# EAGLE library part MPU-9250 (library invensense)
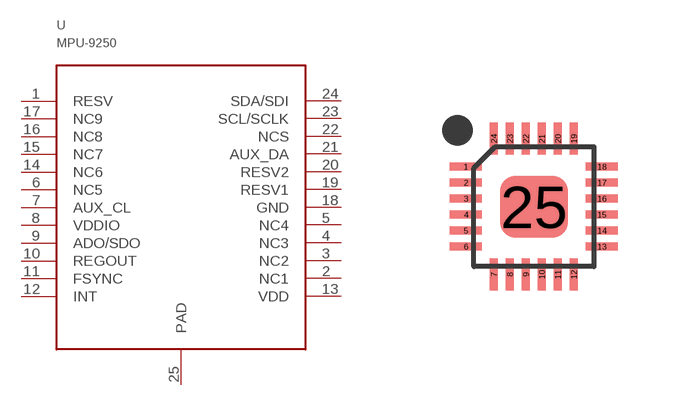
[diagram p0: symbol with the pads of LEAD-QFN24; footprint LEAD-QFN24]

Designator prefix -

## MPU-9250  [LEAD-QFN24]
1  RESV
2  NC1
3  NC2
4  NC3
5  NC4
6  NC5
7  AUX_CL
8  VDDIO
9  ADO/SDO
10  REGOUT
11  FSYNC
12  INT
13  VDD
14  NC6
15  NC7
16  NC8
17  NC9
18  GND
19  RESV1
20  RESV2
21  AUX_DA
22  NCS
23  SCL/SCLK
24  SDA/SDI
25  PAD

## Footprint LEAD-QFN24 (pad centres in mm)
smd 0.8 x 0.2: 1 -1.7,1; 2 -1.7,0.6; 3 -1.7,0.2; 4 -1.7,-0.2; 5 -1.7,-0.6; 6 -1.7,-1; 13 1.7,-1; 14 1.7,-0.6; 15 1.7,-0.2; 16 1.7,0.2; 17 1.7,0.6; 18 1.7,1
smd 0.2 x 0.8: 7 -1,-1.7; 8 -0.6,-1.7; 9 -0.2,-1.7; 10 0.2,-1.7; 11 0.6,-1.7; 12 1,-1.7; 19 1,1.7; 20 0.6,1.7; 21 0.2,1.7; 22 -0.2,1.7; 23 -0.6,1.7; 24 -1,1.7
smd 1.7 x 1.54: 25 0,0